# EAGLE library part LIS2MDL (library CPSS_SENSOR)
ST Microelectronics 3-Axis Magnetometer Features: - 3 magnetic field channels - ±50 gauss magnetic dynamic range - 16-bit data output - SPI/I2C serial interfaces - Analog supply voltage 1.71 V to 3.6 V - Selectable power mode/resolution - Single measurement mode - Programmable interrupt generator - Embedded self-test - Embedded temperature sensor - ECOPACK®, RoHS and “Green” compliant
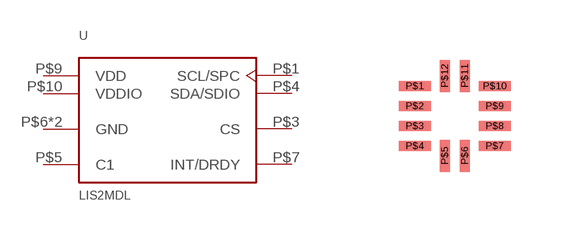
[diagram p3: symbol with the pads of LGA-12; footprint LGA-12]

Designator prefix U

## LIS2MDL  [LGA-12]
P$1  SCL/SPC
P$3  CS
P$4  SDA/SDIO
P$5  C1
P$6  GND
P$7  INT/DRDY
P$8  GND
P$9  VDD
P$10  VDDIO

## Footprint LGA-12 (pad centres in mm)
smd 0.8 x 0.25: P$1 -1,0.75; P$2 -1,0.25; P$3 -1,-0.25; P$4 -1,-0.75; P$7 1,-0.75; P$8 1,-0.25; P$9 1,0.25; P$10 1,0.75
smd 0.25 x 0.8: P$5 -0.25,-1; P$6 0.25,-1; P$11 0.25,1; P$12 -0.25,1